# EAGLE library part MCP9801-M/SN (library MCP9801MSN)
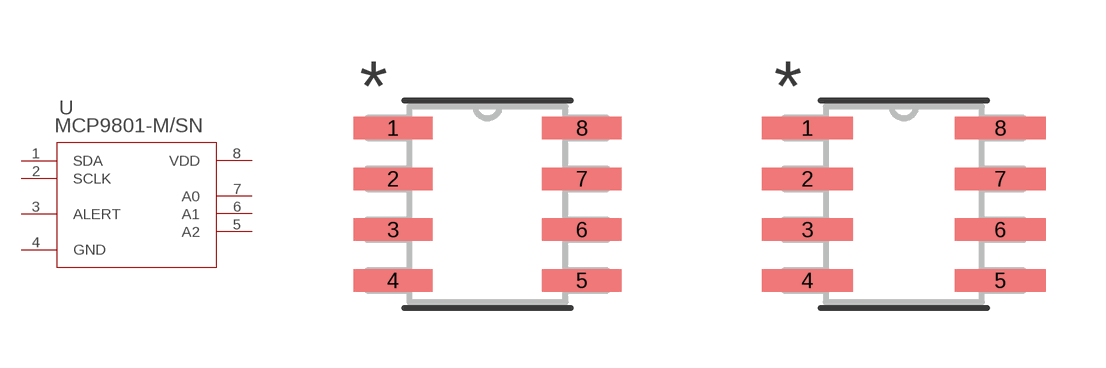
[diagram p0: symbol with the pads of SOIC8-N_MC_MCH; footprints SOIC8-N_MC_MCH, SOIC8-N_MC_MCH-M]

Designator prefix U

## MCP9801-M/SN (COPYRIGHT: Copyright (C) 2023 Ultra Librarian. All rights reserved.; MANUFACTURER_PART_NUMBER: MCP9801-M/SN; MFR_NAME: Microchip)  [SOIC8-N_MC_MCH]
1  SDA  pas
2  SCLK  pas
3  ALERT  pas
4  GND  pas
5  A2  pas
6  A1  pas
7  A0  pas
8  VDD  pas

## MCP9801-M/SNSOIC8-N_MC_MCH-M (COPYRIGHT: Copyright (C) 2023 Ultra Librarian. All rights reserved.; MANUFACTURER_PART_NUMBER: MCP9801-M/SN; MFR_NAME: Microchip)  [SOIC8-N_MC_MCH-M]
Pads as for SOIC8-N_MC_MCH

## MCP9801-M/SNSOIC8-N_MC_MCH-L (COPYRIGHT: Copyright (C) 2023 Ultra Librarian. All rights reserved.; MANUFACTURER_PART_NUMBER: MCP9801-M/SN; MFR_NAME: Microchip)  [SOIC8-N_MC_MCH-L]
Pads as for SOIC8-N_MC_MCH

## Footprint SOIC8-N_MC_MCH (pad centres in mm)
smd 1.981 x 0.559: 1 -2.362,1.905; 2 -2.362,0.635; 3 -2.362,-0.635; 4 -2.362,-1.905; 5 2.362,-1.905; 6 2.362,-0.635; 7 2.362,0.635; 8 2.362,1.905

## Footprint SOIC8-N_MC_MCH-M (pad centres in mm)
smd 2.286 x 0.559: 1 -2.413,1.905; 2 -2.413,0.635; 3 -2.413,-0.635; 4 -2.413,-1.905; 5 2.413,-1.905; 6 2.413,-0.635; 7 2.413,0.635; 8 2.413,1.905

## Footprint SOIC8-N_MC_MCH-L (pad centres in mm)
smd 1.676 x 0.508: 1 -2.311,1.905; 2 -2.311,0.635; 3 -2.311,-0.635; 4 -2.311,-1.905; 5 2.311,-1.905; 6 2.311,-0.635; 7 2.311,0.635; 8 2.311,1.905